# EAGLE library part AP2623GY (library cTechnologies_transistors)
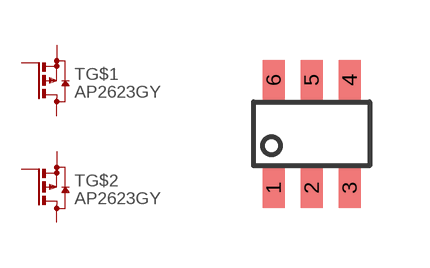
[diagram p1: symbol with the pads of SOT26; footprint SOT26]

Designator prefix T; gates G$1=P-MOS G$2=P-MOS

## AP2623GY  [SOT26]
1  G$1:G  pas
2  G$2:S  pas
3  G$2:G  pas
4  G$2:D  pas
5  G$1:S  pas
6  G$1:D  pas

## Footprint SOT26 (pad centres in mm)
smd 0.55 x 1: 1 -0.95,-1.35; 2 0,-1.35; 3 0.95,-1.35; 4 0.95,1.35; 5 0,1.35; 6 -0.95,1.35